# Altium integrated library TI Power Management Supervisor and Reset IC.IntLib: 819 symbols (part 2 of 30)
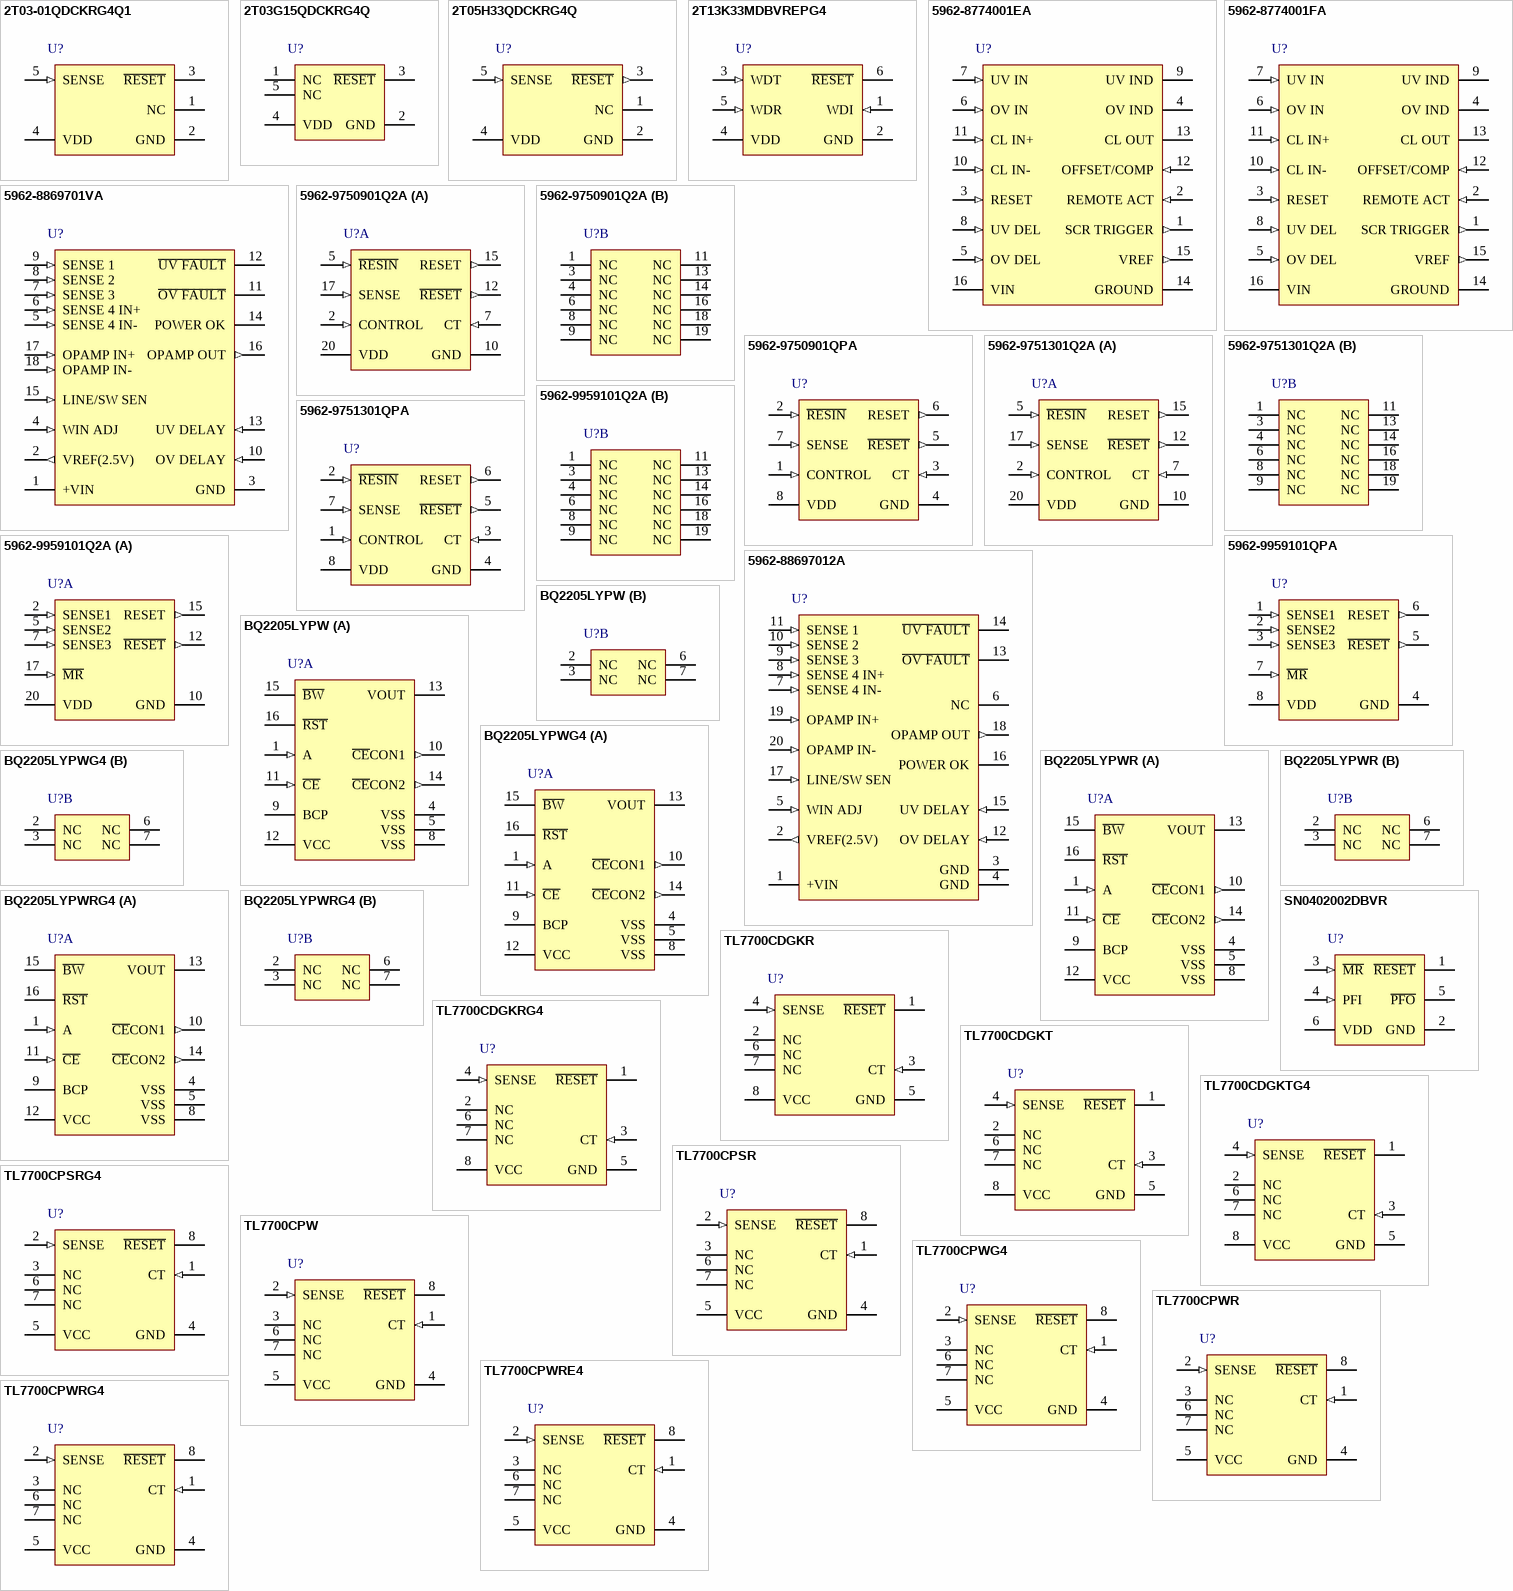
[diagram p22: symbols 2T03-01QDCKRG4Q1 to TL7700CPWRG4]

## TL7700CPWR
designator U?
Voltage Supervisor, Supply Monitored, -40 to 85 degC, 8-pin TSSOP (PW), Green (RoHS & no Sb/Br); Manufacturer: Texas Instruments; PartNumber: TL7700CPWR; Rating: Catalog; Reset Threshold Accuracy(%): 1; SubFamily: Supervisor and Reset IC; Threshold Voltage 1 (typ)(Typ)(V): 2.5; Time Delay(ms): Programmable; VCC(Max)(V): 40; VCC(Min)(V): 1.8; DatasheetVersion: SLVS220F; PackageVersion: revG, Feb-2011; PackageReference: PW8; PackageDescription: 8-Pin Plastic Thin Small Outline Package 3 x 4.4 mm Body ,0.65 mm Pitch; Supplier 1: Digi-Key; Supplier Part Number 1: 296-13050-2-ND; Supplier 2: Digi-Key; Supplier Part Number 2: 296-13050-1-ND; Supplier 3: Digi-Key; Supplier Part Number 3: 296-13050-6-ND; Supplier 4: Newark; Supplier Part Number 4: 76C9345; Supplier 5: Mouser; Supplier Part Number 5: 595-TL7700CPWR; Mounting Technology: Surface Mount; Code_JEDEC: MO-153; ComponentLink1Description: Datasheet; ComponentLink1URL: http://www.ti.com/general/docs/lit/getliterature.tsp?genericPartNumber=TL7700&fileType=pdf
footprint PW8_N (TSOP, 8-Leads, Body 3x4.4mm, Pitch 0.65mm, IPC Medium Density)
footprint PW8_L (TSOP, 8-Leads, Body 3x4.4mm, Pitch 0.65mm, IPC High Density)
footprint PW8_M (TSOP, 8-Leads, Body 3x4.4mm, Pitch 0.65mm, IPC Low Density)
pins: 1 CT (in) "Timing capacitor connection. This terminal sets the RESET output pulse duration (tpo). It is connected internally to a 15-uA constant-current source. There is a limit on the switching speed of internal elements; even if CT (See Datasheet)", 2 SENSE (in) "Voltage sense. This terminal has a threshold level of 500 mV. The sense voltage and hysteresis can be set at the same time when the two voltage-dividing resistors are connected. The reference voltage is temperature (See Datasheet)", 3 NC "No internal connection", 4 GND (power) "Ground. Keep this terminal as low impedance to reduce circuit noise.", 5 VCC (power) "Power supply. This terminal is used in an operating-voltage range of 1.8 V to 40 V.", 6 NC "No internal connection", 7 NC "No internal connection", 8 ~{RESET} (oc) "Reset output. This terminal can be connected directly to a system that resets in the active-low state. A pullup resistor usually is required because the output is an npn open-collector transistor. An additional transistor (See Datasheet)"

## TL7700CPWRE4
designator U?
Voltage Supervisor, Supply Monitored, -40 to 85 degC, 8-pin TSSOP (PW), Green (RoHS & no Sb/Br); Manufacturer: Texas Instruments; PartNumber: TL7700CPWRE4; Rating: Catalog; SubFamily: Supervisory Circuits (Voltage Supervisors); DatasheetVersion: SLVS220F; PackageVersion: revG, Feb-2011; PackageReference: PW8; PackageDescription: 8-Pin Plastic Thin Small Outline Package 3 x 4.4 mm Body ,0.65 mm Pitch; Supplier 1: Digi-Key; Supplier Part Number 1: TL7700CPWRE4-ND; Supplier 2: Newark; Supplier Part Number 2: 33K7482; Supplier 3: Mouser; Supplier Part Number 3: 595-TL7700CPWRE4; Mounting Technology: Surface Mount; Code_JEDEC: MO-153; ComponentLink1Description: Datasheet; ComponentLink1URL: http://www.ti.com/general/docs/lit/getliterature.tsp?genericPartNumber=TL7700&fileType=pdf
footprint PW8_N (TSOP, 8-Leads, Body 3x4.4mm, Pitch 0.65mm, IPC Medium Density)
footprint PW8_L (TSOP, 8-Leads, Body 3x4.4mm, Pitch 0.65mm, IPC High Density)
footprint PW8_M (TSOP, 8-Leads, Body 3x4.4mm, Pitch 0.65mm, IPC Low Density)
pins: 1 CT (in) "Timing capacitor connection. This terminal sets the RESET output pulse duration (tpo). It is connected internally to a 15-uA constant-current source. There is a limit on the switching speed of internal elements; even if CT (See Datasheet)", 2 SENSE (in) "Voltage sense. This terminal has a threshold level of 500 mV. The sense voltage and hysteresis can be set at the same time when the two voltage-dividing resistors are connected. The reference voltage is temperature (See Datasheet)", 3 NC "No internal connection", 4 GND (power) "Ground. Keep this terminal as low impedance to reduce circuit noise.", 5 VCC (power) "Power supply. This terminal is used in an operating-voltage range of 1.8 V to 40 V.", 6 NC "No internal connection", 7 NC "No internal connection", 8 ~{RESET} (oc) "Reset output. This terminal can be connected directly to a system that resets in the active-low state. A pullup resistor usually is required because the output is an npn open-collector transistor. An additional transistor (See Datasheet)"

## TL7700CPWRG4
designator U?
Voltage Supervisor, Supply Monitored, -40 to 85 degC, 8-pin TSSOP (PW), Green (RoHS & no Sb/Br); Manufacturer: Texas Instruments; PartNumber: TL7700CPWRG4; Rating: Catalog; Reset Threshold Accuracy(%): 1; SubFamily: Supervisor and Reset IC; Threshold Voltage 1 (typ)(Typ)(V): 2.5; Time Delay(ms): Programmable; VCC(Max)(V): 40; VCC(Min)(V): 1.8; DatasheetVersion: SLVS220F; PackageVersion: revG, Feb-2011; PackageReference: PW8; PackageDescription: 8-Pin Plastic Thin Small Outline Package 3 x 4.4 mm Body ,0.65 mm Pitch; Supplier 1: Digi-Key; Supplier Part Number 1: TL7700CPWRG4-ND; Supplier 2: Newark; Supplier Part Number 2: 46M9296; Supplier 3: Mouser; Supplier Part Number 3: 595-TL7700CPWRG4; Mounting Technology: Surface Mount; Code_JEDEC: MO-153; ComponentLink1Description: Datasheet; ComponentLink1URL: http://www.ti.com/general/docs/lit/getliterature.tsp?genericPartNumber=TL7700&fileType=pdf
footprint PW8_N (TSOP, 8-Leads, Body 3x4.4mm, Pitch 0.65mm, IPC Medium Density)
footprint PW8_L (TSOP, 8-Leads, Body 3x4.4mm, Pitch 0.65mm, IPC High Density)
footprint PW8_M (TSOP, 8-Leads, Body 3x4.4mm, Pitch 0.65mm, IPC Low Density)
pins: 1 CT (in) "Timing capacitor connection. This terminal sets the RESET output pulse duration (tpo). It is connected internally to a 15-uA constant-current source. There is a limit on the switching speed of internal elements; even if CT (See Datasheet)", 2 SENSE (in) "Voltage sense. This terminal has a threshold level of 500 mV. The sense voltage and hysteresis can be set at the same time when the two voltage-dividing resistors are connected. The reference voltage is temperature (See Datasheet)", 3 NC "No internal connection", 4 GND (power) "Ground. Keep this terminal as low impedance to reduce circuit noise.", 5 VCC (power) "Power supply. This terminal is used in an operating-voltage range of 1.8 V to 40 V.", 6 NC "No internal connection", 7 NC "No internal connection", 8 ~{RESET} (oc) "Reset output. This terminal can be connected directly to a system that resets in the active-low state. A pullup resistor usually is required because the output is an npn open-collector transistor. An additional transistor (See Datasheet)"

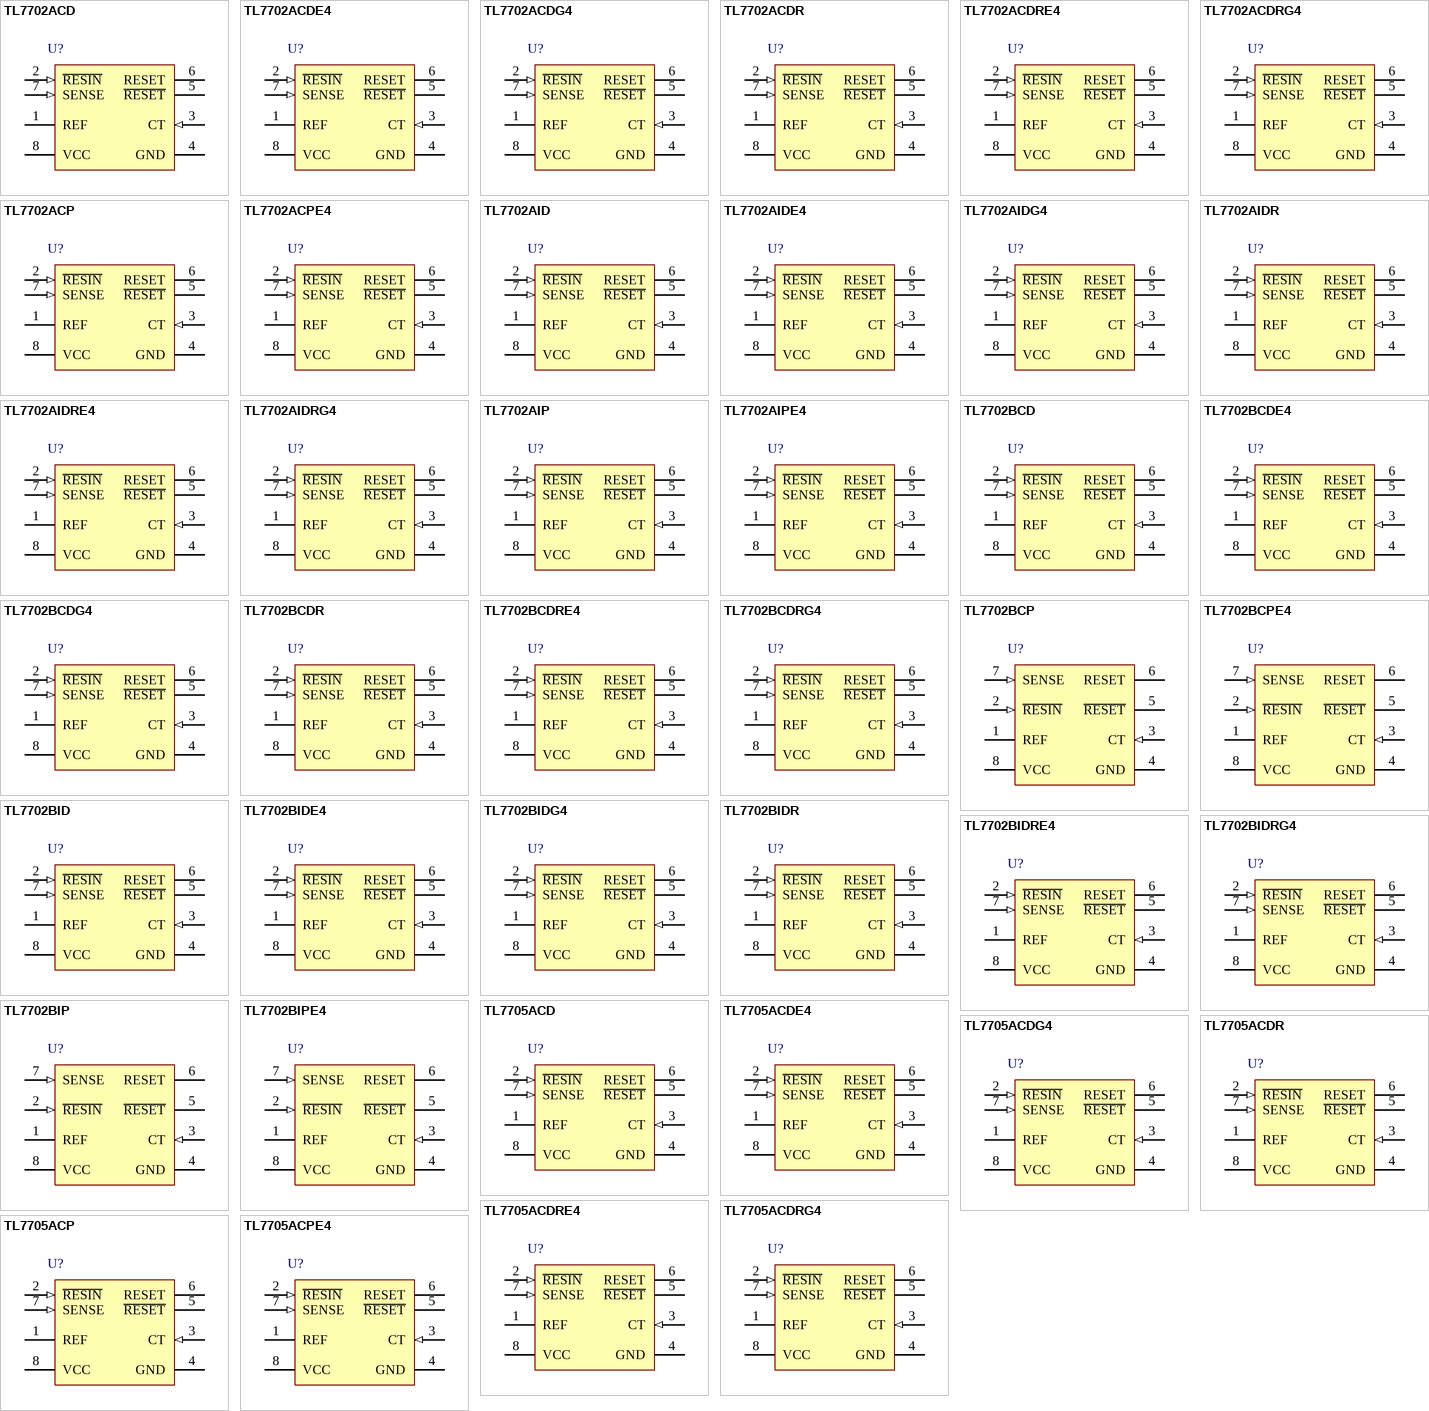
[diagram p1: symbols TL7702ACD to TL7705ACPE4]

## TL7702ACD
designator U?
Single Supply Voltage Supervisor with Programmable UV Threshold & Reset Time Delay, 1 Supply Monitored, 0 to 70 degC, 8-pin SOIC (D), Green (RoHS & no Sb/Br); Manufacturer: Texas Instruments; PartNumber: TL7702ACD; # of supplies monitored: 1; Iq(Typ)(uA): 1800; Output Driver Type / Reset Output: Active-low, Open-drain, Active-high, Open-drain; Rating: Military; Reset Threshold Accuracy(%): 2; SubFamily: Supervisor and Reset IC; Threshold Voltage 1 (typ)(Typ)(V): 2.53; VCC(Max)(V): 18; VCC(Min)(V): 3.5; DatasheetVersion: SLVS028I; PackageVersion: revM, Jun-2011; PackageReference: D8; PackageDescription: 8-Pin Plastic Small Outline Integrated Circuit, 4.9 x 3.9 mm, Pitch 1.27 mm Pitch; Supplier 1: Digi-Key; Supplier Part Number 1: 296-1295-5-ND; Supplier 2: Farnell; Supplier Part Number 2: 9593667; Supplier 3: Newark; Supplier Part Number 3: 08F9502; Supplier 4: Mouser; Supplier Part Number 4: 595-TL7702ACD; Time Delay(ms): Programmable; Mounting Technology: Surface Mount; Code_JEDEC: MS-012AA; ComponentLink1Description: Datasheet; ComponentLink1URL: http://www.ti.com/general/docs/lit/getliterature.tsp?genericPartNumber=TL7702A&fileType=pdf
footprint D8_N (SOIC, 8-Leads, Body 4.9x3.9mm, Pitch 1.27mm, IPC Medium Density)
footprint D8_L (SOIC, 8-Leads, Body 4.9x3.9mm, Pitch 1.27mm, IPC High Density)
footprint D8_M (SOIC, 8-Leads, Body 4.9x3.9mm, Pitch 1.27mm, IPC Low Density)
pins: 1 REF, 2 ~{RESIN} (in), 3 CT (in), 4 GND (power), 5 ~{RESET} (oc), 6 RESET (oe), 7 SENSE (in), 8 VCC (power)

## TL7702ACDE4
designator U?
Single Supply Voltage Supervisor with Programmable UV Threshold & Reset Time Delay, 1 Supply Monitored, 0 to 70 degC, 8-pin SOIC (D), Green (RoHS & no Sb/Br); Manufacturer: Texas Instruments; PartNumber: TL7702ACDE4; # of supplies monitored: 1; Iq(Typ)(uA): 1800; Output Driver Type / Reset Output: Active-low, Open-drain, Active-high, Open-drain; Rating: Military; Reset Threshold Accuracy(%): 2; SubFamily: Supervisor and Reset IC; Threshold Voltage 1 (typ)(Typ)(V): 2.53; VCC(Max)(V): 18; VCC(Min)(V): 3.5; DatasheetVersion: SLVS028I; PackageVersion: revM, Jun-2011; PackageReference: D8; PackageDescription: 8-Pin Plastic Small Outline Integrated Circuit, 4.9 x 3.9 mm, Pitch 1.27 mm Pitch; Supplier 1: Digi-Key; Supplier Part Number 1: TL7702ACDE4-ND; Supplier 2: Newark; Supplier Part Number 2: 40K9725; Time Delay(ms): Programmable; Mounting Technology: Surface Mount; Code_JEDEC: MS-012AA; ComponentLink1Description: Datasheet; ComponentLink1URL: http://www.ti.com/general/docs/lit/getliterature.tsp?genericPartNumber=TL7702A&fileType=pdf
footprint D8_N (SOIC, 8-Leads, Body 4.9x3.9mm, Pitch 1.27mm, IPC Medium Density)
footprint D8_L (SOIC, 8-Leads, Body 4.9x3.9mm, Pitch 1.27mm, IPC High Density)
footprint D8_M (SOIC, 8-Leads, Body 4.9x3.9mm, Pitch 1.27mm, IPC Low Density)
pins: 1 REF, 2 ~{RESIN} (in), 3 CT (in), 4 GND (power), 5 ~{RESET} (oc), 6 RESET (oe), 7 SENSE (in), 8 VCC (power)

## TL7702ACDG4
designator U?
Single Supply Voltage Supervisor with Programmable UV Threshold & Reset Time Delay, 1 Supply Monitored, 0 to 70 degC, 8-pin SOIC (D), Green (RoHS & no Sb/Br); Manufacturer: Texas Instruments; PartNumber: TL7702ACDG4; # of supplies monitored: 1; Iq(Typ)(uA): 1800; Output Driver Type / Reset Output: Active-low, Open-drain, Active-high, Open-drain; Rating: Military; Reset Threshold Accuracy(%): 2; SubFamily: Supervisor and Reset IC; Threshold Voltage 1 (typ)(Typ)(V): 2.53; VCC(Max)(V): 18; VCC(Min)(V): 3.5; DatasheetVersion: SLVS028I; PackageVersion: revM, Jun-2011; PackageReference: D8; PackageDescription: 8-Pin Plastic Small Outline Integrated Circuit, 4.9 x 3.9 mm, Pitch 1.27 mm Pitch; Supplier 1: Digi-Key; Supplier Part Number 1: TL7702ACDG4-ND; Supplier 2: Newark; Supplier Part Number 2: 40K9726; Supplier 3: Mouser; Supplier Part Number 3: 595-TL7702ACDG4; Time Delay(ms): Programmable; Mounting Technology: Surface Mount; Code_JEDEC: MS-012AA; ComponentLink1Description: Datasheet; ComponentLink1URL: http://www.ti.com/general/docs/lit/getliterature.tsp?genericPartNumber=TL7702A&fileType=pdf
footprint D8_N (SOIC, 8-Leads, Body 4.9x3.9mm, Pitch 1.27mm, IPC Medium Density)
footprint D8_L (SOIC, 8-Leads, Body 4.9x3.9mm, Pitch 1.27mm, IPC High Density)
footprint D8_M (SOIC, 8-Leads, Body 4.9x3.9mm, Pitch 1.27mm, IPC Low Density)
pins: 1 REF, 2 ~{RESIN} (in), 3 CT (in), 4 GND (power), 5 ~{RESET} (oc), 6 RESET (oe), 7 SENSE (in), 8 VCC (power)

## TL7702ACDR
designator U?
Single Supply Voltage Supervisor with Programmable UV Threshold & Reset Time Delay, 1 Supply Monitored, 0 to 70 degC, 8-pin SOIC (D), Green (RoHS & no Sb/Br); Manufacturer: Texas Instruments; PartNumber: TL7702ACDR; # of supplies monitored: 1; Iq(Typ)(uA): 1800; Output Driver Type / Reset Output: Active-low, Open-drain, Active-high, Open-drain; Rating: Military; Reset Threshold Accuracy(%): 2; SubFamily: Supervisor and Reset IC; Threshold Voltage 1 (typ)(Typ)(V): 2.53; VCC(Max)(V): 18; VCC(Min)(V): 3.5; DatasheetVersion: SLVS028I; PackageVersion: revM, Jun-2011; PackageReference: D8; PackageDescription: 8-Pin Plastic Small Outline Integrated Circuit, 4.9 x 3.9 mm, Pitch 1.27 mm Pitch; Supplier 1: Digi-Key; Supplier Part Number 1: 296-1295-2-ND; Supplier 2: Digi-Key; Supplier Part Number 2: 296-1295-1-ND; Supplier 3: Digi-Key; Supplier Part Number 3: 296-1295-6-ND; Supplier 4: Mouser; Supplier Part Number 4: 595-TL7702ACDR; Time Delay(ms): Programmable; Mounting Technology: Surface Mount; Code_JEDEC: MS-012AA; ComponentLink1Description: Datasheet; ComponentLink1URL: http://www.ti.com/general/docs/lit/getliterature.tsp?genericPartNumber=TL7702A&fileType=pdf
footprint D8_N (SOIC, 8-Leads, Body 4.9x3.9mm, Pitch 1.27mm, IPC Medium Density)
footprint D8_L (SOIC, 8-Leads, Body 4.9x3.9mm, Pitch 1.27mm, IPC High Density)
footprint D8_M (SOIC, 8-Leads, Body 4.9x3.9mm, Pitch 1.27mm, IPC Low Density)
pins: 1 REF, 2 ~{RESIN} (in), 3 CT (in), 4 GND (power), 5 ~{RESET} (oc), 6 RESET (oe), 7 SENSE (in), 8 VCC (power)

## TL7702ACDRE4
designator U?
Single Supply Voltage Supervisor with Programmable UV Threshold & Reset Time Delay, 1 Supply Monitored, 0 to 70 degC, 8-pin SOIC (D), Green (RoHS & no Sb/Br); Manufacturer: Texas Instruments; PartNumber: TL7702ACDRE4; # of supplies monitored: 1; Iq(Typ)(uA): 1800; Output Driver Type / Reset Output: Active-low, Open-drain, Active-high, Open-drain; Rating: Military; Reset Threshold Accuracy(%): 2; SubFamily: Supervisor and Reset IC; Threshold Voltage 1 (typ)(Typ)(V): 2.53; VCC(Max)(V): 18; VCC(Min)(V): 3.5; DatasheetVersion: SLVS028I; PackageVersion: revM, Jun-2011; PackageReference: D8; PackageDescription: 8-Pin Plastic Small Outline Integrated Circuit, 4.9 x 3.9 mm, Pitch 1.27 mm Pitch; Supplier 1: Digi-Key; Supplier Part Number 1: TL7702ACDRE4-ND; Supplier 2: Newark; Supplier Part Number 2: 40K9727; Supplier 3: Mouser; Supplier Part Number 3: 595-TL7702ACDRE4; Time Delay(ms): Programmable; Mounting Technology: Surface Mount; Code_JEDEC: MS-012AA; ComponentLink1Description: Datasheet; ComponentLink1URL: http://www.ti.com/general/docs/lit/getliterature.tsp?genericPartNumber=TL7702A&fileType=pdf
footprint D8_N (SOIC, 8-Leads, Body 4.9x3.9mm, Pitch 1.27mm, IPC Medium Density)
footprint D8_L (SOIC, 8-Leads, Body 4.9x3.9mm, Pitch 1.27mm, IPC High Density)
footprint D8_M (SOIC, 8-Leads, Body 4.9x3.9mm, Pitch 1.27mm, IPC Low Density)
pins: 1 REF, 2 ~{RESIN} (in), 3 CT (in), 4 GND (power), 5 ~{RESET} (oc), 6 RESET (oe), 7 SENSE (in), 8 VCC (power)

## TL7702ACDRG4
designator U?
Single Supply Voltage Supervisor with Programmable UV Threshold & Reset Time Delay, 1 Supply Monitored, 0 to 70 degC, 8-pin SOIC (D), Green (RoHS & no Sb/Br); Manufacturer: Texas Instruments; PartNumber: TL7702ACDRG4; # of supplies monitored: 1; Iq(Typ)(uA): 1800; Output Driver Type / Reset Output: Active-low, Open-drain, Active-high, Open-drain; Rating: Military; Reset Threshold Accuracy(%): 2; SubFamily: Supervisor and Reset IC; Threshold Voltage 1 (typ)(Typ)(V): 2.53; VCC(Max)(V): 18; VCC(Min)(V): 3.5; DatasheetVersion: SLVS028I; PackageVersion: revM, Jun-2011; PackageReference: D8; PackageDescription: 8-Pin Plastic Small Outline Integrated Circuit, 4.9 x 3.9 mm, Pitch 1.27 mm Pitch; Supplier 1: Digi-Key; Supplier Part Number 1: TL7702ACDRG4-ND; Supplier 2: Newark; Supplier Part Number 2: 40K9728; Supplier 3: Mouser; Supplier Part Number 3: 595-TL7702ACDRG4; Time Delay(ms): Programmable; Mounting Technology: Surface Mount; Code_JEDEC: MS-012AA; ComponentLink1Description: Datasheet; ComponentLink1URL: http://www.ti.com/general/docs/lit/getliterature.tsp?genericPartNumber=TL7702A&fileType=pdf
footprint D8_N (SOIC, 8-Leads, Body 4.9x3.9mm, Pitch 1.27mm, IPC Medium Density)
footprint D8_L (SOIC, 8-Leads, Body 4.9x3.9mm, Pitch 1.27mm, IPC High Density)
footprint D8_M (SOIC, 8-Leads, Body 4.9x3.9mm, Pitch 1.27mm, IPC Low Density)
pins: 1 REF, 2 ~{RESIN} (in), 3 CT (in), 4 GND (power), 5 ~{RESET} (oc), 6 RESET (oe), 7 SENSE (in), 8 VCC (power)

## TL7702ACP
designator U?
Single Supply Voltage Supervisor with Programmable UV Threshold & Reset Time Delay, 1 Supply Monitored, 0 to 70 degC, 8-pin PDIP (P), Pb-Free (RoHS); Manufacturer: Texas Instruments; PartNumber: TL7702ACP; # of supplies monitored: 1; Iq(Typ)(uA): 1800; Output Driver Type / Reset Output: Active-low, Open-drain, Active-high, Open-drain; Rating: Military; Reset Threshold Accuracy(%): 2; SubFamily: Supervisor and Reset IC; Threshold Voltage 1 (typ)(Typ)(V): 2.53; VCC(Max)(V): 18; VCC(Min)(V): 3.5; DatasheetVersion: SLVS028I; PackageVersion: revE, Apr-2010; PackageReference: P8; PackageDescription: 8-Pin Plastic Dual-In-Line Package, Row Spacing 7.62 mm, Pitch 2.54 mm; Supplier 1: Digi-Key; Supplier Part Number 1: 296-3232-5-ND; Supplier 2: Farnell; Supplier Part Number 2: 1103042; Supplier 3: Newark; Supplier Part Number 3: 60K6996; Time Delay(ms): Programmable; Mounting Technology: Through Hole; Code_JEDEC: MS-001-BA; ComponentLink1Description: Datasheet; ComponentLink1URL: http://www.ti.com/general/docs/lit/getliterature.tsp?genericPartNumber=TL7702A&fileType=pdf
footprint P8 (DIP, 8-Leads, Row Spacing 7.62mm, Pitch 2.54mm, Body 9.6x6.4mm)
pins: 1 REF, 2 ~{RESIN} (in), 3 CT (in), 4 GND (power), 5 ~{RESET} (oc), 6 RESET (oe), 7 SENSE (in), 8 VCC (power)

## TL7702ACPE4
designator U?
Single Supply Voltage Supervisor with Programmable UV Threshold & Reset Time Delay, 1 Supply Monitored, 0 to 70 degC, 8-pin PDIP (P), Pb-Free (RoHS); Manufacturer: Texas Instruments; PartNumber: TL7702ACPE4; # of supplies monitored: 1; Iq(Typ)(uA): 1800; Output Driver Type / Reset Output: Active-low, Open-drain, Active-high, Open-drain; Rating: Military; Reset Threshold Accuracy(%): 2; SubFamily: Supervisor and Reset IC; Threshold Voltage 1 (typ)(Typ)(V): 2.53; VCC(Max)(V): 18; VCC(Min)(V): 3.5; DatasheetVersion: SLVS028I; PackageVersion: revE, Apr-2010; PackageReference: P8; PackageDescription: 8-Pin Plastic Dual-In-Line Package, Row Spacing 7.62 mm, Pitch 2.54 mm; Supplier 1: Digi-Key; Supplier Part Number 1: TL7702ACPE4-ND; Supplier 2: Newark; Supplier Part Number 2: 37K4579; Supplier 3: Mouser; Supplier Part Number 3: 595-TL7702ACPE4; Time Delay(ms): Programmable; Mounting Technology: Through Hole; Code_JEDEC: MS-001-BA; ComponentLink1Description: Datasheet; ComponentLink1URL: http://www.ti.com/general/docs/lit/getliterature.tsp?genericPartNumber=TL7702A&fileType=pdf
footprint P8 (DIP, 8-Leads, Row Spacing 7.62mm, Pitch 2.54mm, Body 9.6x6.4mm)
pins: 1 REF, 2 ~{RESIN} (in), 3 CT (in), 4 GND (power), 5 ~{RESET} (oc), 6 RESET (oe), 7 SENSE (in), 8 VCC (power)

## TL7702AID
designator U?
Single Supply Voltage Supervisor with Programmable UV Threshold & Reset Time Delay, 1 Supply Monitored, -40 to 85 degC, 8-pin SOIC (D), Green (RoHS & no Sb/Br); Manufacturer: Texas Instruments; PartNumber: TL7702AID; # of supplies monitored: 1; Iq(Typ)(uA): 1800; Output Driver Type / Reset Output: Active-low, Open-drain, Active-high, Open-drain; Rating: Military; Reset Threshold Accuracy(%): 2; SubFamily: Supervisor and Reset IC; Threshold Voltage 1 (typ)(Typ)(V): 2.53; VCC(Max)(V): 18; VCC(Min)(V): 3.5; DatasheetVersion: SLVS028I; PackageVersion: revM, Jun-2011; PackageReference: D8; PackageDescription: 8-Pin Plastic Small Outline Integrated Circuit, 4.9 x 3.9 mm, Pitch 1.27 mm Pitch; Supplier 1: Digi-Key; Supplier Part Number 1: 296-3233-5-ND; Supplier 2: Farnell; Supplier Part Number 2: 9593675; Supplier 3: Newark; Supplier Part Number 3: 52F2763; Time Delay(ms): Programmable; Mounting Technology: Surface Mount; Code_JEDEC: MS-012AA; ComponentLink1Description: Datasheet; ComponentLink1URL: http://www.ti.com/general/docs/lit/getliterature.tsp?genericPartNumber=TL7702A&fileType=pdf
footprint D8_N (SOIC, 8-Leads, Body 4.9x3.9mm, Pitch 1.27mm, IPC Medium Density)
footprint D8_L (SOIC, 8-Leads, Body 4.9x3.9mm, Pitch 1.27mm, IPC High Density)
footprint D8_M (SOIC, 8-Leads, Body 4.9x3.9mm, Pitch 1.27mm, IPC Low Density)
pins: 1 REF, 2 ~{RESIN} (in), 3 CT (in), 4 GND (power), 5 ~{RESET} (oc), 6 RESET (oe), 7 SENSE (in), 8 VCC (power)

## TL7702AIDE4
designator U?
Single Supply Voltage Supervisor with Programmable UV Threshold & Reset Time Delay, 1 Supply Monitored, -40 to 85 degC, 8-pin SOIC (D), Green (RoHS & no Sb/Br); Manufacturer: Texas Instruments; PartNumber: TL7702AIDE4; # of supplies monitored: 1; Iq(Typ)(uA): 1800; Output Driver Type / Reset Output: Active-low, Open-drain, Active-high, Open-drain; Rating: Military; Reset Threshold Accuracy(%): 2; SubFamily: Supervisor and Reset IC; Threshold Voltage 1 (typ)(Typ)(V): 2.53; VCC(Max)(V): 18; VCC(Min)(V): 3.5; DatasheetVersion: SLVS028I; PackageVersion: revM, Jun-2011; PackageReference: D8; PackageDescription: 8-Pin Plastic Small Outline Integrated Circuit, 4.9 x 3.9 mm, Pitch 1.27 mm Pitch; Supplier 1: Digi-Key; Supplier Part Number 1: TL7702AIDE4-ND; Supplier 2: Newark; Supplier Part Number 2: 69K0657; Supplier 3: Mouser; Supplier Part Number 3: 595-TL7702AIDE4; Time Delay(ms): Programmable; Mounting Technology: Surface Mount; Code_JEDEC: MS-012AA; ComponentLink1Description: Datasheet; ComponentLink1URL: http://www.ti.com/general/docs/lit/getliterature.tsp?genericPartNumber=TL7702A&fileType=pdf
footprint D8_N (SOIC, 8-Leads, Body 4.9x3.9mm, Pitch 1.27mm, IPC Medium Density)
footprint D8_L (SOIC, 8-Leads, Body 4.9x3.9mm, Pitch 1.27mm, IPC High Density)
footprint D8_M (SOIC, 8-Leads, Body 4.9x3.9mm, Pitch 1.27mm, IPC Low Density)
pins: 1 REF, 2 ~{RESIN} (in), 3 CT (in), 4 GND (power), 5 ~{RESET} (oc), 6 RESET (oe), 7 SENSE (in), 8 VCC (power)

## TL7702AIDG4
designator U?
Single Supply Voltage Supervisor with Programmable UV Threshold & Reset Time Delay, 1 Supply Monitored, -40 to 85 degC, 8-pin SOIC (D), Green (RoHS & no Sb/Br); Manufacturer: Texas Instruments; PartNumber: TL7702AIDG4; # of supplies monitored: 1; Iq(Typ)(uA): 1800; Output Driver Type / Reset Output: Active-low, Open-drain, Active-high, Open-drain; Rating: Military; Reset Threshold Accuracy(%): 2; SubFamily: Supervisor and Reset IC; Threshold Voltage 1 (typ)(Typ)(V): 2.53; VCC(Max)(V): 18; VCC(Min)(V): 3.5; DatasheetVersion: SLVS028I; PackageVersion: revM, Jun-2011; PackageReference: D8; PackageDescription: 8-Pin Plastic Small Outline Integrated Circuit, 4.9 x 3.9 mm, Pitch 1.27 mm Pitch; Supplier 1: Digi-Key; Supplier Part Number 1: TL7702AIDG4-ND; Supplier 2: Newark; Supplier Part Number 2: 40K9729; Supplier 3: Mouser; Supplier Part Number 3: 595-TL7702AIDG4; Time Delay(ms): Programmable; Mounting Technology: Surface Mount; Code_JEDEC: MS-012AA; ComponentLink1Description: Datasheet; ComponentLink1URL: http://www.ti.com/general/docs/lit/getliterature.tsp?genericPartNumber=TL7702A&fileType=pdf
footprint D8_N (SOIC, 8-Leads, Body 4.9x3.9mm, Pitch 1.27mm, IPC Medium Density)
footprint D8_L (SOIC, 8-Leads, Body 4.9x3.9mm, Pitch 1.27mm, IPC High Density)
footprint D8_M (SOIC, 8-Leads, Body 4.9x3.9mm, Pitch 1.27mm, IPC Low Density)
pins: 1 REF, 2 ~{RESIN} (in), 3 CT (in), 4 GND (power), 5 ~{RESET} (oc), 6 RESET (oe), 7 SENSE (in), 8 VCC (power)

## TL7702AIDR
designator U?
Single Supply Voltage Supervisor with Programmable UV Threshold & Reset Time Delay, 1 Supply Monitored, -40 to 85 degC, 8-pin SOIC (D), Green (RoHS & no Sb/Br); Manufacturer: Texas Instruments; PartNumber: TL7702AIDR; # of supplies monitored: 1; Iq(Typ)(uA): 1800; Output Driver Type / Reset Output: Active-low, Open-drain, Active-high, Open-drain; Rating: Military; Reset Threshold Accuracy(%): 2; SubFamily: Supervisor and Reset IC; Threshold Voltage 1 (typ)(Typ)(V): 2.53; VCC(Max)(V): 18; VCC(Min)(V): 3.5; DatasheetVersion: SLVS028I; PackageVersion: revM, Jun-2011; PackageReference: D8; PackageDescription: 8-Pin Plastic Small Outline Integrated Circuit, 4.9 x 3.9 mm, Pitch 1.27 mm Pitch; Supplier 1: Digi-Key; Supplier Part Number 1: 296-15017-2-ND; Supplier 2: Digi-Key; Supplier Part Number 2: 296-15017-1-ND; Supplier 3: Digi-Key; Supplier Part Number 3: 296-15017-6-ND; Supplier 4: Newark; Supplier Part Number 4: 76C9346; Time Delay(ms): Programmable; Mounting Technology: Surface Mount; Code_JEDEC: MS-012AA; ComponentLink1Description: Datasheet; ComponentLink1URL: http://www.ti.com/general/docs/lit/getliterature.tsp?genericPartNumber=TL7702A&fileType=pdf
footprint D8_N (SOIC, 8-Leads, Body 4.9x3.9mm, Pitch 1.27mm, IPC Medium Density)
footprint D8_L (SOIC, 8-Leads, Body 4.9x3.9mm, Pitch 1.27mm, IPC High Density)
footprint D8_M (SOIC, 8-Leads, Body 4.9x3.9mm, Pitch 1.27mm, IPC Low Density)
pins: 1 REF, 2 ~{RESIN} (in), 3 CT (in), 4 GND (power), 5 ~{RESET} (oc), 6 RESET (oe), 7 SENSE (in), 8 VCC (power)

## TL7702AIDRE4
designator U?
Single Supply Voltage Supervisor with Programmable UV Threshold & Reset Time Delay, 1 Supply Monitored, -40 to 85 degC, 8-pin SOIC (D), Green (RoHS & no Sb/Br); Manufacturer: Texas Instruments; PartNumber: TL7702AIDRE4; # of supplies monitored: 1; Iq(Typ)(uA): 1800; Output Driver Type / Reset Output: Active-low, Open-drain, Active-high, Open-drain; Rating: Military; Reset Threshold Accuracy(%): 2; SubFamily: Supervisor and Reset IC; Threshold Voltage 1 (typ)(Typ)(V): 2.53; VCC(Max)(V): 18; VCC(Min)(V): 3.5; DatasheetVersion: SLVS028I; PackageVersion: revM, Jun-2011; PackageReference: D8; PackageDescription: 8-Pin Plastic Small Outline Integrated Circuit, 4.9 x 3.9 mm, Pitch 1.27 mm Pitch; Supplier 1: Digi-Key; Supplier Part Number 1: TL7702AIDRE4-ND; Supplier 2: Newark; Supplier Part Number 2: 69K0658; Supplier 3: Mouser; Supplier Part Number 3: 595-TL7702AIDRE4; Time Delay(ms): Programmable; Mounting Technology: Surface Mount; Code_JEDEC: MS-012AA; ComponentLink1Description: Datasheet; ComponentLink1URL: http://www.ti.com/general/docs/lit/getliterature.tsp?genericPartNumber=TL7702A&fileType=pdf
footprint D8_N (SOIC, 8-Leads, Body 4.9x3.9mm, Pitch 1.27mm, IPC Medium Density)
footprint D8_L (SOIC, 8-Leads, Body 4.9x3.9mm, Pitch 1.27mm, IPC High Density)
footprint D8_M (SOIC, 8-Leads, Body 4.9x3.9mm, Pitch 1.27mm, IPC Low Density)
pins: 1 REF, 2 ~{RESIN} (in), 3 CT (in), 4 GND (power), 5 ~{RESET} (oc), 6 RESET (oe), 7 SENSE (in), 8 VCC (power)

## TL7702AIDRG4
designator U?
Single Supply Voltage Supervisor with Programmable UV Threshold & Reset Time Delay, 1 Supply Monitored, -40 to 85 degC, 8-pin SOIC (D), Green (RoHS & no Sb/Br); Manufacturer: Texas Instruments; PartNumber: TL7702AIDRG4; # of supplies monitored: 1; Iq(Typ)(uA): 1800; Output Driver Type / Reset Output: Active-low, Open-drain, Active-high, Open-drain; Rating: Military; Reset Threshold Accuracy(%): 2; SubFamily: Supervisor and Reset IC; Threshold Voltage 1 (typ)(Typ)(V): 2.53; VCC(Max)(V): 18; VCC(Min)(V): 3.5; DatasheetVersion: SLVS028I; PackageVersion: revM, Jun-2011; PackageReference: D8; PackageDescription: 8-Pin Plastic Small Outline Integrated Circuit, 4.9 x 3.9 mm, Pitch 1.27 mm Pitch; Supplier 1: Digi-Key; Supplier Part Number 1: TL7702AIDRG4-ND; Supplier 2: Newark; Supplier Part Number 2: 40K9730; Supplier 3: Mouser; Supplier Part Number 3: 595-TL7702AIDRG4; Time Delay(ms): Programmable; Mounting Technology: Surface Mount; Code_JEDEC: MS-012AA; ComponentLink1Description: Datasheet; ComponentLink1URL: http://www.ti.com/general/docs/lit/getliterature.tsp?genericPartNumber=TL7702A&fileType=pdf
footprint D8_N (SOIC, 8-Leads, Body 4.9x3.9mm, Pitch 1.27mm, IPC Medium Density)
footprint D8_L (SOIC, 8-Leads, Body 4.9x3.9mm, Pitch 1.27mm, IPC High Density)
footprint D8_M (SOIC, 8-Leads, Body 4.9x3.9mm, Pitch 1.27mm, IPC Low Density)
pins: 1 REF, 2 ~{RESIN} (in), 3 CT (in), 4 GND (power), 5 ~{RESET} (oc), 6 RESET (oe), 7 SENSE (in), 8 VCC (power)

## TL7702AIP
designator U?
Single Supply Voltage Supervisor with Programmable UV Threshold & Reset Time Delay, 1 Supply Monitored, -40 to 85 degC, 8-pin PDIP (P), Pb-Free (RoHS); Manufacturer: Texas Instruments; PartNumber: TL7702AIP; # of supplies monitored: 1; Iq(Typ)(uA): 1800; Output Driver Type / Reset Output: Active-low, Open-drain, Active-high, Open-drain; Rating: Military; Reset Threshold Accuracy(%): 2; SubFamily: Supervisor and Reset IC; Threshold Voltage 1 (typ)(Typ)(V): 2.53; VCC(Max)(V): 18; VCC(Min)(V): 3.5; DatasheetVersion: SLVS028I; PackageVersion: revE, Apr-2010; PackageReference: P8; PackageDescription: 8-Pin Plastic Dual-In-Line Package, Row Spacing 7.62 mm, Pitch 2.54 mm; Supplier 1: Digi-Key; Supplier Part Number 1: 296-3234-5-ND; Supplier 2: Newark; Supplier Part Number 2: 76C9347; Supplier 3: Mouser; Supplier Part Number 3: 595-TL7702AIP; Time Delay(ms): Programmable; Mounting Technology: Through Hole; Code_JEDEC: MS-001-BA; ComponentLink1Description: Datasheet; ComponentLink1URL: http://www.ti.com/general/docs/lit/getliterature.tsp?genericPartNumber=TL7702A&fileType=pdf
footprint P8 (DIP, 8-Leads, Row Spacing 7.62mm, Pitch 2.54mm, Body 9.6x6.4mm)
pins: 1 REF, 2 ~{RESIN} (in), 3 CT (in), 4 GND (power), 5 ~{RESET} (oc), 6 RESET (oe), 7 SENSE (in), 8 VCC (power)

## TL7702AIPE4
designator U?
Single Supply Voltage Supervisor with Programmable UV Threshold & Reset Time Delay, 1 Supply Monitored, -40 to 85 degC, 8-pin PDIP (P), Pb-Free (RoHS); Manufacturer: Texas Instruments; PartNumber: TL7702AIPE4; # of supplies monitored: 1; Iq(Typ)(uA): 1800; Output Driver Type / Reset Output: Active-low, Open-drain, Active-high, Open-drain; Rating: Military; Reset Threshold Accuracy(%): 2; SubFamily: Supervisor and Reset IC; Threshold Voltage 1 (typ)(Typ)(V): 2.53; VCC(Max)(V): 18; VCC(Min)(V): 3.5; DatasheetVersion: SLVS028I; PackageVersion: revE, Apr-2010; PackageReference: P8; PackageDescription: 8-Pin Plastic Dual-In-Line Package, Row Spacing 7.62 mm, Pitch 2.54 mm; Supplier 1: Digi-Key; Supplier Part Number 1: TL7702AIPE4-ND; Supplier 2: Newark; Supplier Part Number 2: 63K6534; Time Delay(ms): Programmable; Mounting Technology: Through Hole; Code_JEDEC: MS-001-BA; ComponentLink1Description: Datasheet; ComponentLink1URL: http://www.ti.com/general/docs/lit/getliterature.tsp?genericPartNumber=TL7702A&fileType=pdf
footprint P8 (DIP, 8-Leads, Row Spacing 7.62mm, Pitch 2.54mm, Body 9.6x6.4mm)
pins: 1 REF, 2 ~{RESIN} (in), 3 CT (in), 4 GND (power), 5 ~{RESET} (oc), 6 RESET (oe), 7 SENSE (in), 8 VCC (power)

## TL7702BCD
designator U?
Single Supply Voltage Supervisor with Programmable UV Threshold & Reset Time Delay, 1 Supply Monitored, 0 to 70 degC, 8-pin SOIC (D), Green (RoHS & no Sb/Br); Manufacturer: Texas Instruments; PartNumber: TL7702BCD; # of supplies monitored: 1; Iq(Typ)(uA): 1800; Output Driver Type / Reset Output: Active-low, Open-drain, Active-high, Open-drain; Rating: Military; Reset Threshold Accuracy(%): 2; SubFamily: Supervisor and Reset IC; Threshold Voltage 1 (typ)(Typ)(V): 2.53; VCC(Max)(V): 18; VCC(Min)(V): 3.6; DatasheetVersion: SLVS037M; PackageVersion: revM, Jun-2011; PackageReference: D8; PackageDescription: 8-Pin Plastic Small Outline Integrated Circuit, 4.9 x 3.9 mm, Pitch 1.27 mm Pitch; Supplier 1: Digi-Key; Supplier Part Number 1: 296-1296-5-ND; Supplier 2: Farnell; Supplier Part Number 2: 9593683; Supplier 3: Newark; Supplier Part Number 3: 98K1698; Supplier 4: Newark; Supplier Part Number 4: 76C9348; Supplier 5: Mouser; Supplier Part Number 5: 595-TL7702BCD; Time Delay(ms): Programmable; Mounting Technology: Surface Mount; Code_JEDEC: MS-012AA; ComponentLink1Description: Datasheet; ComponentLink1URL: http://www.ti.com/general/docs/lit/getliterature.tsp?genericPartNumber=TL7702B&fileType=pdf
footprint D8_N (SOIC, 8-Leads, Body 4.9x3.9mm, Pitch 1.27mm, IPC Medium Density)
footprint D8_L (SOIC, 8-Leads, Body 4.9x3.9mm, Pitch 1.27mm, IPC High Density)
footprint D8_M (SOIC, 8-Leads, Body 4.9x3.9mm, Pitch 1.27mm, IPC Low Density)
pins: 1 REF, 2 ~{RESIN} (in), 3 CT (in), 4 GND (power), 5 ~{RESET} (oc), 6 RESET (oe), 7 SENSE (in), 8 VCC (power)

## TL7702BCDE4
designator U?
Single Supply Voltage Supervisor with Programmable UV Threshold & Reset Time Delay, 1 Supply Monitored, 0 to 70 degC, 8-pin SOIC (D), Green (RoHS & no Sb/Br); Manufacturer: Texas Instruments; PartNumber: TL7702BCDE4; # of supplies monitored: 1; Iq(Typ)(uA): 1800; Output Driver Type / Reset Output: Active-low, Open-drain, Active-high, Open-drain; Rating: Military; Reset Threshold Accuracy(%): 2; SubFamily: Supervisor and Reset IC; Threshold Voltage 1 (typ)(Typ)(V): 2.53; VCC(Max)(V): 18; VCC(Min)(V): 3.6; DatasheetVersion: SLVS037M; PackageVersion: revM, Jun-2011; PackageReference: D8; PackageDescription: 8-Pin Plastic Small Outline Integrated Circuit, 4.9 x 3.9 mm, Pitch 1.27 mm Pitch; Supplier 1: Digi-Key; Supplier Part Number 1: TL7702BCDE4-ND; Supplier 2: Newark; Supplier Part Number 2: 69K0659; Supplier 3: Mouser; Supplier Part Number 3: 595-TL7702BCDE4; Time Delay(ms): Programmable; Mounting Technology: Surface Mount; Code_JEDEC: MS-012AA; ComponentLink1Description: Datasheet; ComponentLink1URL: http://www.ti.com/general/docs/lit/getliterature.tsp?genericPartNumber=TL7702B&fileType=pdf
footprint D8_N (SOIC, 8-Leads, Body 4.9x3.9mm, Pitch 1.27mm, IPC Medium Density)
footprint D8_L (SOIC, 8-Leads, Body 4.9x3.9mm, Pitch 1.27mm, IPC High Density)
footprint D8_M (SOIC, 8-Leads, Body 4.9x3.9mm, Pitch 1.27mm, IPC Low Density)
pins: 1 REF, 2 ~{RESIN} (in), 3 CT (in), 4 GND (power), 5 ~{RESET} (oc), 6 RESET (oe), 7 SENSE (in), 8 VCC (power)

## TL7702BCDG4
designator U?
Single Supply Voltage Supervisor with Programmable UV Threshold & Reset Time Delay, 1 Supply Monitored, 0 to 70 degC, 8-pin SOIC (D), Green (RoHS & no Sb/Br); Manufacturer: Texas Instruments; PartNumber: TL7702BCDG4; # of supplies monitored: 1; Iq(Typ)(uA): 1800; Output Driver Type / Reset Output: Active-low, Open-drain, Active-high, Open-drain; Rating: Military; Reset Threshold Accuracy(%): 2; SubFamily: Supervisor and Reset IC; Threshold Voltage 1 (typ)(Typ)(V): 2.53; VCC(Max)(V): 18; VCC(Min)(V): 3.6; DatasheetVersion: SLVS037M; PackageVersion: revM, Jun-2011; PackageReference: D8; PackageDescription: 8-Pin Plastic Small Outline Integrated Circuit, 4.9 x 3.9 mm, Pitch 1.27 mm Pitch; Supplier 1: Digi-Key; Supplier Part Number 1: TL7702BCDG4-ND; Supplier 2: Newark; Supplier Part Number 2: 40K9731; Supplier 3: Mouser; Supplier Part Number 3: 595-TL7702BCDG4; Time Delay(ms): Programmable; Mounting Technology: Surface Mount; Code_JEDEC: MS-012AA; ComponentLink1Description: Datasheet; ComponentLink1URL: http://www.ti.com/general/docs/lit/getliterature.tsp?genericPartNumber=TL7702B&fileType=pdf
footprint D8_N (SOIC, 8-Leads, Body 4.9x3.9mm, Pitch 1.27mm, IPC Medium Density)
footprint D8_L (SOIC, 8-Leads, Body 4.9x3.9mm, Pitch 1.27mm, IPC High Density)
footprint D8_M (SOIC, 8-Leads, Body 4.9x3.9mm, Pitch 1.27mm, IPC Low Density)
pins: 1 REF, 2 ~{RESIN} (in), 3 CT (in), 4 GND (power), 5 ~{RESET} (oc), 6 RESET (oe), 7 SENSE (in), 8 VCC (power)

## TL7702BCDR
designator U?
Single Supply Voltage Supervisor with Programmable UV Threshold & Reset Time Delay, 1 Supply Monitored, 0 to 70 degC, 8-pin SOIC (D), Green (RoHS & no Sb/Br); Manufacturer: Texas Instruments; PartNumber: TL7702BCDR; # of supplies monitored: 1; Iq(Typ)(uA): 1800; Output Driver Type / Reset Output: Active-low, Open-drain, Active-high, Open-drain; Rating: Military; Reset Threshold Accuracy(%): 2; SubFamily: Supervisor and Reset IC; Threshold Voltage 1 (typ)(Typ)(V): 2.53; VCC(Max)(V): 18; VCC(Min)(V): 3.6; DatasheetVersion: SLVS037M; PackageVersion: revM, Jun-2011; PackageReference: D8; PackageDescription: 8-Pin Plastic Small Outline Integrated Circuit, 4.9 x 3.9 mm, Pitch 1.27 mm Pitch; Supplier 1: Digi-Key; Supplier Part Number 1: 296-1296-2-ND; Supplier 2: Digi-Key; Supplier Part Number 2: 296-1296-1-ND; Supplier 3: Digi-Key; Supplier Part Number 3: 296-1296-6-ND; Supplier 4: Newark; Supplier Part Number 4: 35C2193; Supplier 5: Mouser; Supplier Part Number 5: 595-TL7702BCDR; Time Delay(ms): Programmable; Mounting Technology: Surface Mount; Code_JEDEC: MS-012AA; ComponentLink1Description: Datasheet; ComponentLink1URL: http://www.ti.com/general/docs/lit/getliterature.tsp?genericPartNumber=TL7702B&fileType=pdf
footprint D8_N (SOIC, 8-Leads, Body 4.9x3.9mm, Pitch 1.27mm, IPC Medium Density)
footprint D8_L (SOIC, 8-Leads, Body 4.9x3.9mm, Pitch 1.27mm, IPC High Density)
footprint D8_M (SOIC, 8-Leads, Body 4.9x3.9mm, Pitch 1.27mm, IPC Low Density)
pins: 1 REF, 2 ~{RESIN} (in), 3 CT (in), 4 GND (power), 5 ~{RESET} (oc), 6 RESET (oe), 7 SENSE (in), 8 VCC (power)

## TL7702BCDRE4
designator U?
Single Supply Voltage Supervisor with Programmable UV Threshold & Reset Time Delay, 1 Supply Monitored, 0 to 70 degC, 8-pin SOIC (D), Green (RoHS & no Sb/Br); Manufacturer: Texas Instruments; PartNumber: TL7702BCDRE4; # of supplies monitored: 1; Iq(Typ)(uA): 1800; Output Driver Type / Reset Output: Active-low, Open-drain, Active-high, Open-drain; Rating: Military; Reset Threshold Accuracy(%): 2; SubFamily: Supervisor and Reset IC; Threshold Voltage 1 (typ)(Typ)(V): 2.53; VCC(Max)(V): 18; VCC(Min)(V): 3.6; DatasheetVersion: SLVS037M; PackageVersion: revM, Jun-2011; PackageReference: D8; PackageDescription: 8-Pin Plastic Small Outline Integrated Circuit, 4.9 x 3.9 mm, Pitch 1.27 mm Pitch; Supplier 1: Digi-Key; Supplier Part Number 1: TL7702BCDRE4-ND; Supplier 2: Newark; Supplier Part Number 2: 69K0660; Time Delay(ms): Programmable; Mounting Technology: Surface Mount; Code_JEDEC: MS-012AA; ComponentLink1Description: Datasheet; ComponentLink1URL: http://www.ti.com/general/docs/lit/getliterature.tsp?genericPartNumber=TL7702B&fileType=pdf
footprint D8_N (SOIC, 8-Leads, Body 4.9x3.9mm, Pitch 1.27mm, IPC Medium Density)
footprint D8_L (SOIC, 8-Leads, Body 4.9x3.9mm, Pitch 1.27mm, IPC High Density)
footprint D8_M (SOIC, 8-Leads, Body 4.9x3.9mm, Pitch 1.27mm, IPC Low Density)
pins: 1 REF, 2 ~{RESIN} (in), 3 CT (in), 4 GND (power), 5 ~{RESET} (oc), 6 RESET (oe), 7 SENSE (in), 8 VCC (power)

## TL7702BCDRG4
designator U?
Single Supply Voltage Supervisor with Programmable UV Threshold & Reset Time Delay, 1 Supply Monitored, 0 to 70 degC, 8-pin SOIC (D), Green (RoHS & no Sb/Br); Manufacturer: Texas Instruments; PartNumber: TL7702BCDRG4; # of supplies monitored: 1; Iq(Typ)(uA): 1800; Output Driver Type / Reset Output: Active-low, Open-drain, Active-high, Open-drain; Rating: Military; Reset Threshold Accuracy(%): 2; SubFamily: Supervisor and Reset IC; Threshold Voltage 1 (typ)(Typ)(V): 2.53; VCC(Max)(V): 18; VCC(Min)(V): 3.6; DatasheetVersion: SLVS037M; PackageVersion: revM, Jun-2011; PackageReference: D8; PackageDescription: 8-Pin Plastic Small Outline Integrated Circuit, 4.9 x 3.9 mm, Pitch 1.27 mm Pitch; Supplier 1: Digi-Key; Supplier Part Number 1: TL7702BCDRG4-ND; Supplier 2: Newark; Supplier Part Number 2: 40K9732; Supplier 3: Mouser; Supplier Part Number 3: 595-TL7702BCDRG4; Time Delay(ms): Programmable; Mounting Technology: Surface Mount; Code_JEDEC: MS-012AA; ComponentLink1Description: Datasheet; ComponentLink1URL: http://www.ti.com/general/docs/lit/getliterature.tsp?genericPartNumber=TL7702B&fileType=pdf
footprint D8_N (SOIC, 8-Leads, Body 4.9x3.9mm, Pitch 1.27mm, IPC Medium Density)
footprint D8_L (SOIC, 8-Leads, Body 4.9x3.9mm, Pitch 1.27mm, IPC High Density)
footprint D8_M (SOIC, 8-Leads, Body 4.9x3.9mm, Pitch 1.27mm, IPC Low Density)
pins: 1 REF, 2 ~{RESIN} (in), 3 CT (in), 4 GND (power), 5 ~{RESET} (oc), 6 RESET (oe), 7 SENSE (in), 8 VCC (power)

## TL7702BCP
designator U?
Single Supply Voltage Supervisor with Programmable UV Threshold & Reset Time Delay, 1 Supply Monitored, 0 to 70 degC, 8-pin PDIP (P), Pb-Free (RoHS); Manufacturer: Texas Instruments; PartNumber: TL7702BCP; # of supplies monitored: 1; Iq(Typ)(uA): 1800; Output Driver Type / Reset Output: Active-low, Open-drain, Active-high, Open-drain; Rating: Military; Reset Threshold Accuracy(%): 2; SubFamily: Supervisor and Reset IC; Threshold Voltage 1 (typ)(Typ)(V): 2.53; VCC(Max)(V): 18; VCC(Min)(V): 3.6; DatasheetVersion: SLVS037M; PackageVersion: revE, Apr-2010; PackageReference: P8; PackageDescription: 8-Pin Plastic Dual-In-Line Package, Row Spacing 7.62 mm, Pitch 2.54 mm; Supplier 1: Digi-Key; Supplier Part Number 1: 296-3236-5-ND; Supplier 2: Newark; Supplier Part Number 2: 91F3639; Supplier 3: Mouser; Supplier Part Number 3: 595-TL7702BCP; Time Delay(ms): Programmable; Mounting Technology: Through Hole; Code_JEDEC: MS-001-BA; ComponentLink1Description: Datasheet; ComponentLink1URL: http://www.ti.com/general/docs/lit/getliterature.tsp?genericPartNumber=TL7702B&fileType=pdf
footprint P8 (DIP, 8-Leads, Row Spacing 7.62mm, Pitch 2.54mm, Body 9.6x6.4mm)
pins: 1 REF, 2 ~{RESIN} (in), 3 CT (in), 4 GND (power), 5 ~{RESET} (oc), 6 RESET (oe), 7 SENSE (in), 8 VCC (power)

## TL7702BCPE4
designator U?
Single Supply Voltage Supervisor with Programmable UV Threshold & Reset Time Delay, 1 Supply Monitored, 0 to 70 degC, 8-pin PDIP (P), Pb-Free (RoHS); Manufacturer: Texas Instruments; PartNumber: TL7702BCPE4; # of supplies monitored: 1; Iq(Typ)(uA): 1800; Output Driver Type / Reset Output: Active-low, Open-drain, Active-high, Open-drain; Rating: Military; Reset Threshold Accuracy(%): 2; SubFamily: Supervisor and Reset IC; Threshold Voltage 1 (typ)(Typ)(V): 2.53; VCC(Max)(V): 18; VCC(Min)(V): 3.6; DatasheetVersion: SLVS037M; PackageVersion: revE, Apr-2010; PackageReference: P8; PackageDescription: 8-Pin Plastic Dual-In-Line Package, Row Spacing 7.62 mm, Pitch 2.54 mm; Supplier 1: Digi-Key; Supplier Part Number 1: TL7702BCPE4-ND; Supplier 2: Newark; Supplier Part Number 2: 37K4580; Supplier 3: Mouser; Supplier Part Number 3: 595-TL7702BCPE4; Time Delay(ms): Programmable; Mounting Technology: Through Hole; Code_JEDEC: MS-001-BA; ComponentLink1Description: Datasheet; ComponentLink1URL: http://www.ti.com/general/docs/lit/getliterature.tsp?genericPartNumber=TL7702B&fileType=pdf
footprint P8 (DIP, 8-Leads, Row Spacing 7.62mm, Pitch 2.54mm, Body 9.6x6.4mm)
pins: 1 REF, 2 ~{RESIN} (in), 3 CT (in), 4 GND (power), 5 ~{RESET} (oc), 6 RESET (oe), 7 SENSE (in), 8 VCC (power)

## TL7702BID
designator U?
Single Supply Voltage Supervisor with Programmable UV Threshold & Reset Time Delay, 1 Supply Monitored, -40 to 85 degC, 8-pin SOIC (D), Green (RoHS & no Sb/Br); Manufacturer: Texas Instruments; PartNumber: TL7702BID; # of supplies monitored: 1; Iq(Typ)(uA): 1800; Output Driver Type / Reset Output: Active-low, Open-drain, Active-high, Open-drain; Rating: Military; Reset Threshold Accuracy(%): 2; SubFamily: Supervisor and Reset IC; Threshold Voltage 1 (typ)(Typ)(V): 2.53; VCC(Max)(V): 18; VCC(Min)(V): 3.6; DatasheetVersion: SLVS037M; PackageVersion: revM, Jun-2011; PackageReference: D8; PackageDescription: 8-Pin Plastic Small Outline Integrated Circuit, 4.9 x 3.9 mm, Pitch 1.27 mm Pitch; Supplier 1: Digi-Key; Supplier Part Number 1: 296-3237-5-ND; Supplier 2: Newark; Supplier Part Number 2: 67K2882; Time Delay(ms): Programmable; Mounting Technology: Surface Mount; Code_JEDEC: MS-012AA; ComponentLink1Description: Datasheet; ComponentLink1URL: http://www.ti.com/general/docs/lit/getliterature.tsp?genericPartNumber=TL7702B&fileType=pdf
footprint D8_N (SOIC, 8-Leads, Body 4.9x3.9mm, Pitch 1.27mm, IPC Medium Density)
footprint D8_L (SOIC, 8-Leads, Body 4.9x3.9mm, Pitch 1.27mm, IPC High Density)
footprint D8_M (SOIC, 8-Leads, Body 4.9x3.9mm, Pitch 1.27mm, IPC Low Density)
pins: 1 REF, 2 ~{RESIN} (in), 3 CT (in), 4 GND (power), 5 ~{RESET} (oc), 6 RESET (oe), 7 SENSE (in), 8 VCC (power)

## TL7702BIDE4
designator U?
Single Supply Voltage Supervisor with Programmable UV Threshold & Reset Time Delay, 1 Supply Monitored, -40 to 85 degC, 8-pin SOIC (D), Green (RoHS & no Sb/Br); Manufacturer: Texas Instruments; PartNumber: TL7702BIDE4; # of supplies monitored: 1; Iq(Typ)(uA): 1800; Output Driver Type / Reset Output: Active-low, Open-drain, Active-high, Open-drain; Rating: Military; Reset Threshold Accuracy(%): 2; SubFamily: Supervisor and Reset IC; Threshold Voltage 1 (typ)(Typ)(V): 2.53; VCC(Max)(V): 18; VCC(Min)(V): 3.6; DatasheetVersion: SLVS037M; PackageVersion: revM, Jun-2011; PackageReference: D8; PackageDescription: 8-Pin Plastic Small Outline Integrated Circuit, 4.9 x 3.9 mm, Pitch 1.27 mm Pitch; Supplier 1: Digi-Key; Supplier Part Number 1: TL7702BIDE4-ND; Supplier 2: Newark; Supplier Part Number 2: 37K4581; Supplier 3: Mouser; Supplier Part Number 3: 595-TL7702BIDE4; Time Delay(ms): Programmable; Mounting Technology: Surface Mount; Code_JEDEC: MS-012AA; ComponentLink1Description: Datasheet; ComponentLink1URL: http://www.ti.com/general/docs/lit/getliterature.tsp?genericPartNumber=TL7702B&fileType=pdf
footprint D8_N (SOIC, 8-Leads, Body 4.9x3.9mm, Pitch 1.27mm, IPC Medium Density)
footprint D8_L (SOIC, 8-Leads, Body 4.9x3.9mm, Pitch 1.27mm, IPC High Density)
footprint D8_M (SOIC, 8-Leads, Body 4.9x3.9mm, Pitch 1.27mm, IPC Low Density)
pins: 1 REF, 2 ~{RESIN} (in), 3 CT (in), 4 GND (power), 5 ~{RESET} (oc), 6 RESET (oe), 7 SENSE (in), 8 VCC (power)

## TL7702BIDG4
designator U?
Single Supply Voltage Supervisor with Programmable UV Threshold & Reset Time Delay, 1 Supply Monitored, -40 to 85 degC, 8-pin SOIC (D), Green (RoHS & no Sb/Br); Manufacturer: Texas Instruments; PartNumber: TL7702BIDG4; # of supplies monitored: 1; Iq(Typ)(uA): 1800; Output Driver Type / Reset Output: Active-low, Open-drain, Active-high, Open-drain; Rating: Military; Reset Threshold Accuracy(%): 2; SubFamily: Supervisor and Reset IC; Threshold Voltage 1 (typ)(Typ)(V): 2.53; VCC(Max)(V): 18; VCC(Min)(V): 3.6; DatasheetVersion: SLVS037M; PackageVersion: revM, Jun-2011; PackageReference: D8; PackageDescription: 8-Pin Plastic Small Outline Integrated Circuit, 4.9 x 3.9 mm, Pitch 1.27 mm Pitch; Supplier 1: Digi-Key; Supplier Part Number 1: TL7702BIDG4-ND; Supplier 2: Newark; Supplier Part Number 2: 41M5794; Supplier 3: Mouser; Supplier Part Number 3: 595-TL7702BIDG4; Time Delay(ms): Programmable; Mounting Technology: Surface Mount; Code_JEDEC: MS-012AA; ComponentLink1Description: Datasheet; ComponentLink1URL: http://www.ti.com/general/docs/lit/getliterature.tsp?genericPartNumber=TL7702B&fileType=pdf
footprint D8_N (SOIC, 8-Leads, Body 4.9x3.9mm, Pitch 1.27mm, IPC Medium Density)
footprint D8_L (SOIC, 8-Leads, Body 4.9x3.9mm, Pitch 1.27mm, IPC High Density)
footprint D8_M (SOIC, 8-Leads, Body 4.9x3.9mm, Pitch 1.27mm, IPC Low Density)
pins: 1 REF, 2 ~{RESIN} (in), 3 CT (in), 4 GND (power), 5 ~{RESET} (oc), 6 RESET (oe), 7 SENSE (in), 8 VCC (power)

## TL7702BIDR
designator U?
Single Supply Voltage Supervisor with Programmable UV Threshold & Reset Time Delay, 1 Supply Monitored, -40 to 85 degC, 8-pin SOIC (D), Green (RoHS & no Sb/Br); Manufacturer: Texas Instruments; PartNumber: TL7702BIDR; # of supplies monitored: 1; Iq(Typ)(uA): 1800; Output Driver Type / Reset Output: Active-low, Open-drain, Active-high, Open-drain; Rating: Military; Reset Threshold Accuracy(%): 2; SubFamily: Supervisor and Reset IC; Threshold Voltage 1 (typ)(Typ)(V): 2.53; VCC(Max)(V): 18; VCC(Min)(V): 3.6; DatasheetVersion: SLVS037M; PackageVersion: revM, Jun-2011; PackageReference: D8; PackageDescription: 8-Pin Plastic Small Outline Integrated Circuit, 4.9 x 3.9 mm, Pitch 1.27 mm Pitch; Supplier 1: Digi-Key; Supplier Part Number 1: 296-15018-2-ND; Supplier 2: Digi-Key; Supplier Part Number 2: 296-15018-1-ND; Supplier 3: Digi-Key; Supplier Part Number 3: 296-15018-6-ND; Supplier 4: Newark; Supplier Part Number 4: 76C9350; Time Delay(ms): Programmable; Mounting Technology: Surface Mount; Code_JEDEC: MS-012AA; ComponentLink1Description: Datasheet; ComponentLink1URL: http://www.ti.com/general/docs/lit/getliterature.tsp?genericPartNumber=TL7702B&fileType=pdf
footprint D8_N (SOIC, 8-Leads, Body 4.9x3.9mm, Pitch 1.27mm, IPC Medium Density)
footprint D8_L (SOIC, 8-Leads, Body 4.9x3.9mm, Pitch 1.27mm, IPC High Density)
footprint D8_M (SOIC, 8-Leads, Body 4.9x3.9mm, Pitch 1.27mm, IPC Low Density)
pins: 1 REF, 2 ~{RESIN} (in), 3 CT (in), 4 GND (power), 5 ~{RESET} (oc), 6 RESET (oe), 7 SENSE (in), 8 VCC (power)

## TL7702BIDRE4
designator U?
Single Supply Voltage Supervisor with Programmable UV Threshold & Reset Time Delay, 1 Supply Monitored, -40 to 85 degC, 8-pin SOIC (D), Green (RoHS & no Sb/Br); Manufacturer: Texas Instruments; PartNumber: TL7702BIDRE4; # of supplies monitored: 1; Iq(Typ)(uA): 1800; Output Driver Type / Reset Output: Active-low, Open-drain, Active-high, Open-drain; Rating: Military; Reset Threshold Accuracy(%): 2; SubFamily: Supervisor and Reset IC; Threshold Voltage 1 (typ)(Typ)(V): 2.53; VCC(Max)(V): 18; VCC(Min)(V): 3.6; DatasheetVersion: SLVS037M; PackageVersion: revM, Jun-2011; PackageReference: D8; PackageDescription: 8-Pin Plastic Small Outline Integrated Circuit, 4.9 x 3.9 mm, Pitch 1.27 mm Pitch; Supplier 1: Digi-Key; Supplier Part Number 1: TL7702BIDRE4-ND; Supplier 2: Newark; Supplier Part Number 2: 37K4582; Supplier 3: Mouser; Supplier Part Number 3: 595-TL7702BIDRE4; Time Delay(ms): Programmable; Mounting Technology: Surface Mount; Code_JEDEC: MS-012AA; ComponentLink1Description: Datasheet; ComponentLink1URL: http://www.ti.com/general/docs/lit/getliterature.tsp?genericPartNumber=TL7702B&fileType=pdf
footprint D8_N (SOIC, 8-Leads, Body 4.9x3.9mm, Pitch 1.27mm, IPC Medium Density)
footprint D8_L (SOIC, 8-Leads, Body 4.9x3.9mm, Pitch 1.27mm, IPC High Density)
footprint D8_M (SOIC, 8-Leads, Body 4.9x3.9mm, Pitch 1.27mm, IPC Low Density)
pins: 1 REF, 2 ~{RESIN} (in), 3 CT (in), 4 GND (power), 5 ~{RESET} (oc), 6 RESET (oe), 7 SENSE (in), 8 VCC (power)